# Altium footprint library OSCI-pcb-fp.PcbLib: 11 footprints
Each footprint in its own frame and in the unit in brackets; x right, y up, seen from the top. Pads: shape width x height; smd on the part's side, far side on the other; paste and mask are expansions set on the pad; w line width, h text height; cw(c..) or ccw(c..) is an arc to the next point about the centre after c.
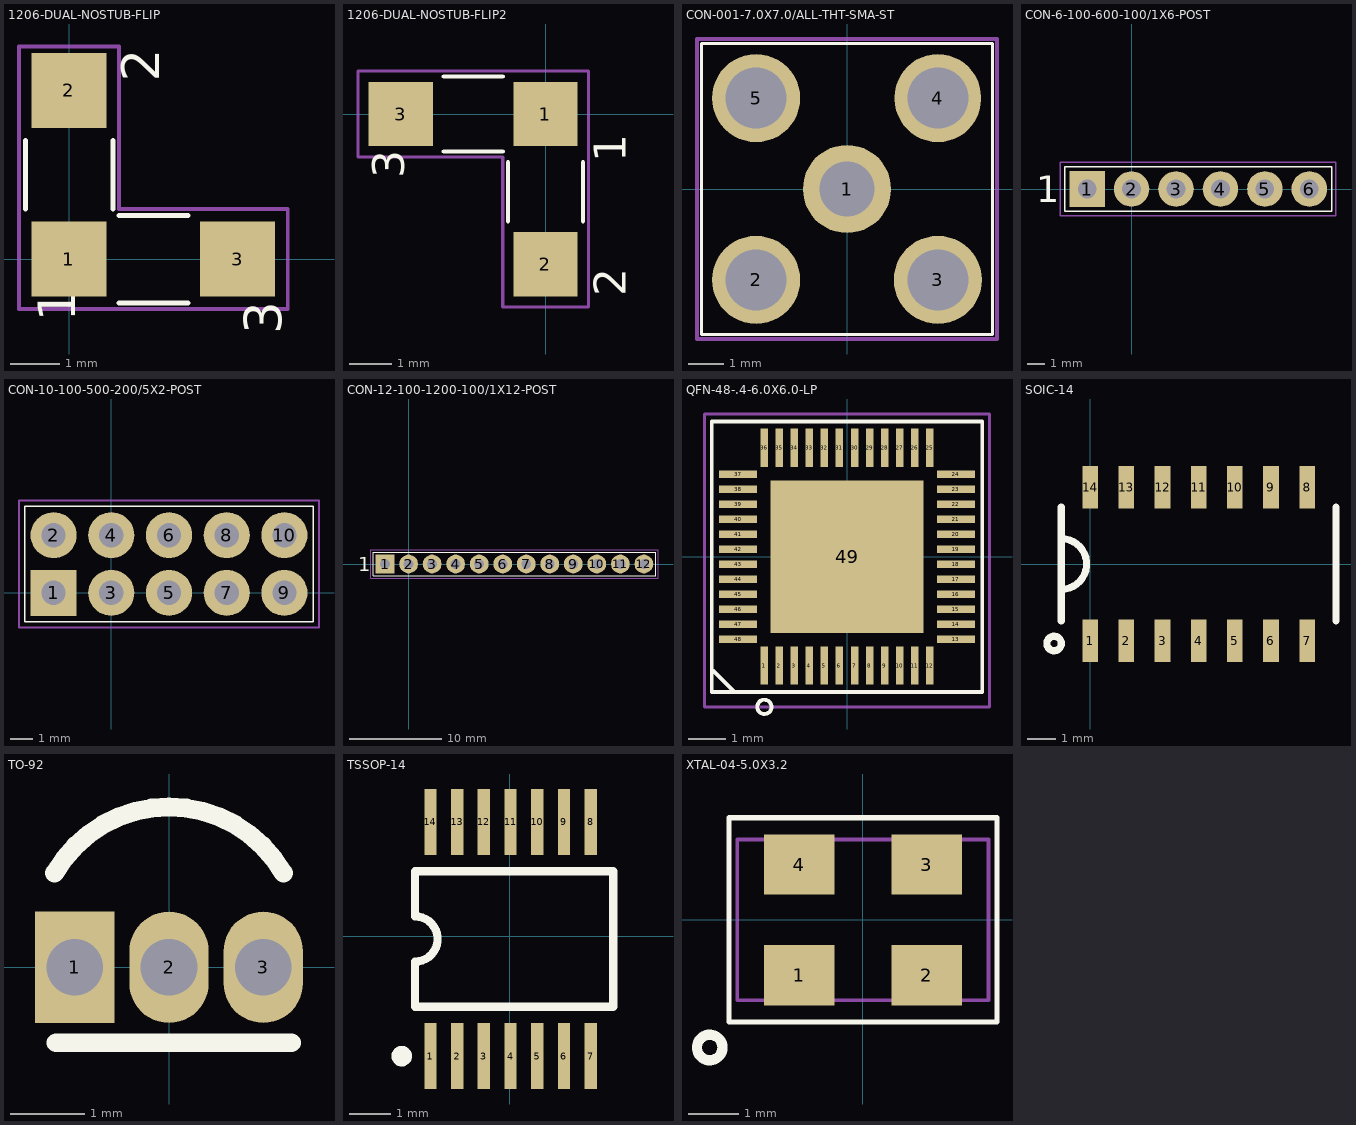
[diagram p0: the footprints below, top view; thin cyan lines are the x and y axes]

## 1206-DUAL-NOSTUB-FLIP [mil]
height 43.31
pads (3):
  rect 60x60 smd: 1(0,-0.02) 2(0,134.98) 3(135,-0.02)
Top Overlay:
  lines w4: -35,40 -35,95 ; 35,40 35,95 ; 40,-35 95,-35 ; 40,35 95,35
  text "1" at 5,-50 h30
  text "3" at 170,-60 h30
  text "2" at 72,142 h30
Mechanical 15:
  lines w3: -40,-40 175,-40 175,40 40,40 40,170 -40,170 -40,-40

## 1206-DUAL-NOSTUB-FLIP2 [mil]
height 43.31
pads (3):
  rect 60x60 smd: 1(0,-0.02) 2(0,-140.22) 3(-135,-0.02)
Top Overlay:
  lines w4: -95,-35 -40,-35 ; -95,35 -40,35 ; -35,-100 -35,-45 ; 35,-100 35,-45
  text "2" at 75,-170 h30
  text "3" at -132,-60 h30
  text "1" at 75,-45 h30
Mechanical 15:
  lines w3: -175,-40 -175,40 40,40 40,-180 -40,-180 -40,-40 -175,-40

## CON-001-7.0X7.0/ALL-THT-SMA-ST [mil]
pads (5):
  round 97 hole 60: 1(0,0)
  round 97 hole 67: 2(-100,-100) 3(100,-100) 5(-100,100)
  oval 94.96x97 hole 67: 4(100,100)
Top Overlay:
  lines w3: -160,-160 160,-160 160,160 72.4,160 -72.4,160 -160,160 -160,-160
Mechanical 15:
  lines w4: -165,-165 165,-165 165,135 165,165 -165,165 -165,-165
3D body "132134_15.stp": height 385.83, standoff -144.49, extent -137.8,-137.8 137.8,137.8

## CON-6-100-600-100/1X6-POST [mil]
pads (6):
  rect 80x80 hole 42: 1(-100,0)
  round 80 hole 42: 2(0,0) 3(100,0) 4(200,0) 5(300,0) 6(400,0)
Top Overlay:
  lines w3: -150,-50 -150,50 450,50 450,-50 -150,-50
  text "1" at -215,-30 h60
Mechanical 15:
  lines w3: -160,-60 460,-60 460,60 -160,60 -160,-60

## CON-10-100-500-200/5X2-POST [mil]
pads (10):
  rect 80x80 hole 42: 1(-100.01,0)
  round 80 hole 42: 2(-100.01,100.01) 3(0,0) 4(0,100.01) 5(100,0) 6(100,100.01) 7(200,-0.01) 8(200,100) 9(300,-0.01) 10(300,100)
Top Overlay:
  lines w3: -150,-50 350,-50 350,150 -150,150.01 -150.01,-50
Mechanical 15:
  lines w3: -160.01,-60 360,-60 360,160 -160.01,160 -160.01,-60

## CON-12-100-1200-100/1X12-POST [mil]
pads (12):
  rect 80x80 hole 42: 1(-100,0)
  round 80 hole 42: 2(0,0) 3(100,0) 4(200,0) 5(300,0) 6(400,0) 7(500,0) 8(600,0) 9(700,0) 10(800,0) 11(900,0) 12(1000,0)
Top Overlay:
  lines w3: -150,-50 -150,50 1050,50 1050,-50 -150,-50
  text "1" at -215,-30 h60
Mechanical 15:
  lines w3: -160,-60 1060,-60 1060,60 -160,60 -160,-60

## QFN-48-.4-6.0X6.0-LP [mm] "Larger Pads"
pads (49):
  rect 0.2x1.016 smd mask+0: 1(-2.2,-2.9) 2(-1.8,-2.9) 3(-1.4,-2.9) 4(-1,-2.9) 5(-0.6,-2.9) 6(-0.2,-2.9) 7(0.2,-2.9) 8(0.6,-2.9) 9(1,-2.9) 10(1.4,-2.9) 11(1.8,-2.9) 12(2.2,-2.9) 25(2.2,2.9) 26(1.8,2.9) 27(1.4,2.9) 28(1,2.9) 29(0.6,2.9) 30(0.2,2.9) 31(-0.2,2.9) 32(-0.6,2.9) 33(-1,2.9) 34(-1.4,2.9) 35(-1.8,2.9) 36(-2.2,2.9)
  rect 1.016x0.2 smd mask+0: 13(2.9,-2.2) 14(2.9,-1.8) 15(2.9,-1.4) 16(2.9,-1) 17(2.9,-0.6) 18(2.9,-0.2) 19(2.9,0.2) 20(2.9,0.6) 21(2.9,1) 22(2.9,1.4) 23(2.9,1.8) 24(2.9,2.2) 37(-2.9,2.2) 38(-2.9,1.8) 39(-2.9,1.4) 40(-2.9,1) 41(-2.9,0.6) 42(-2.9,0.2) 43(-2.9,-0.2) 44(-2.9,-0.6) 45(-2.9,-1) 46(-2.9,-1.4) 47(-2.9,-1.8) 48(-2.9,-2.2)
  rect 4.064x4.064 smd mask+0: 49(0,0)
Top Layer:
  region: -2,2 -2,-1.5 -1.5,-2 2,-2 2,2
Top Overlay:
  circle w0.102: c-2.2,-4 r0.19
  lines w0.102: -3.552,-3.048 -3,-3.6 ; -3.6,-3.6 3.6,-3.6 3.6,3.6 -3.6,3.6 -3.6,-3.6
Mechanical 15:
  lines w0.076: -3.8,-4 3.8,-4 3.8,3.8 -3.8,3.8 -3.8,-4

## SOIC-14 [mm]
pads (14):
  rect 0.55x1.5 smd: 1(0,-2.7) 2(1.27,-2.7) 3(2.54,-2.7) 4(3.81,-2.7) 5(5.08,-2.7) 6(6.35,-2.7) 7(7.62,-2.7) 8(7.62,2.7) 9(6.35,2.7) 10(5.08,2.7) 11(3.81,2.7) 12(2.54,2.7) 13(1.27,2.7) 14(0,2.7)
Top Overlay:
  circle w0.254: c-1.27,-2.794 r0.254
  lines w0.254: -1.016,-2 -1.016,2 ; -1.016,-0.889 ccw(c-1.016,0) -1.016,0.889 ; 8.636,-2 8.636,2

## TO-92 [mm]
pads (3):
  rect 1.07x1.5 hole 0.762 mask+0.05: 1(-1.27,0)
  rrect100% 1.07x1.5 hole 0.762 mask+0.05: 2(0,0) 3(1.27,0)
Top Overlay:
  lines w0.254: -1.54,1.27 cw(c0,0.381) 1.54,1.27 ; -1.524,-1.016 1.651,-1.016

## TSSOP-14 [mm] "Credit: https://github.com/ryankurte/altium-library"
pads (14):
  rect 0.3x1.6 smd mask+0.102: 1(-1.933,-2.911)
  rect 0.3x1.6 smd: 2(-1.283,-2.911) 3(-0.633,-2.911) 4(0.017,-2.911) 5(0.667,-2.911) 6(1.317,-2.911) 7(1.967,-2.911) 8(1.967,2.789) 9(1.317,2.789) 10(0.667,2.789) 11(0.017,2.789) 12(-0.633,2.789) 13(-1.283,2.789) 14(-1.933,2.789)
Top Overlay:
  circle w0.25: c-2.633,-2.911 r0.125
  lines w0.2: -2.308,-1.711 -2.308,-0.611 ccw(c-2.308,-0.061) -2.308,0.489 -2.308,1.589 2.516,1.589 2.516,-1.711 -2.308,-1.711
3D body: height 2.65, standoff 0, extent -2.437,-1.966 2.643,1.844

## XTAL-04-5.0X3.2 [mm]
pads (4):
  rect 1.4x1.2 smd: 1(-1.27,-1.1) 2(1.27,-1.1) 3(1.27,1.1) 4(-1.27,1.1)
Top Overlay:
  circle w0.203: c-3.048,-2.54 r0.254
  lines w0.102: -2.667,-2.032 -2.667,2.032 2.667,2.032 2.667,-2.032 -2.667,-2.032
Mechanical 15:
  lines w0.076: -2.5,-1.6 -2.5,1.6 2.5,1.6 ; -2.5,-1.6 2.5,-1.6 ; 2.5,-1.6 2.5,1.6